# EAGLE library part PIC12C*? (library microchip-3)
MICROCONTROLLER
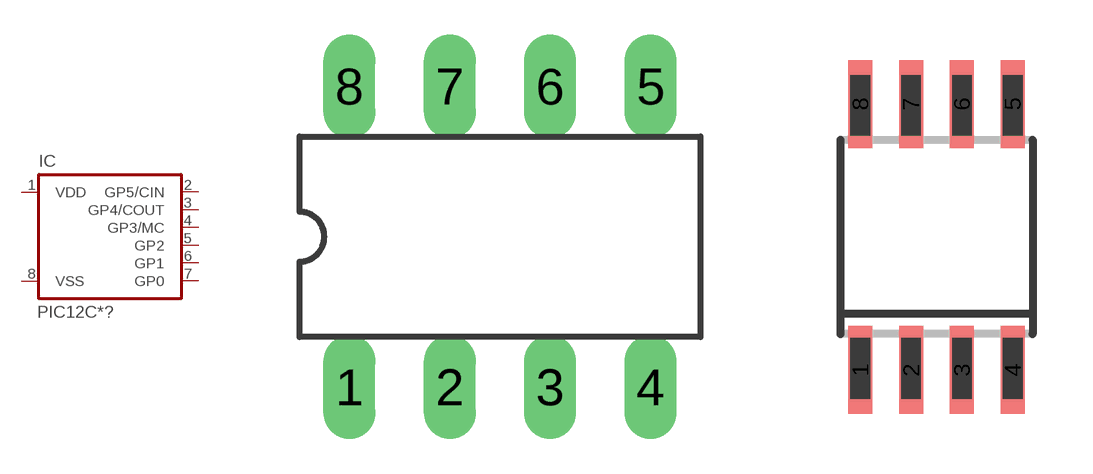
[diagram p23: symbol with the pads of DIL8; footprints DIL8, SO-08M]

Designator prefix IC

## PIC12C508P, PIC12C509P, PIC12C671P, PIC12C672P  [DIL8]
1  VDD  pwr
2  GP5/CIN
3  GP4/COUT
4  GP3/MC  in
5  GP2
6  GP1
7  GP0
8  VSS  pwr

## PIC12C508JN, PIC12C509JN, PIC12C671JN, PIC12C672JN  [DIL8]
Pads as for DIL8

## PIC12C508SM, PIC12C509SM, PIC12C671SM, PIC12C672SM  [SO-08M]
Pads as for DIL8

## Footprint DIL8 (pad centres in mm)
Dual In Line package type P
drill 0.813 long: 1 -3.81,-3.81; 2 -1.27,-3.81; 3 1.27,-3.81; 4 3.81,-3.81; 5 3.81,3.81; 6 1.27,3.81; 7 -1.27,3.81; 8 -3.81,3.81

## Footprint SO-08M (pad centres in mm)
Small Outline Medium Plastic Gull Wing 207-mil body, package type SM
smd 0.6 x 2.2: 1 -1.905,-3.33; 2 -0.635,-3.33; 3 0.635,-3.33; 4 1.905,-3.33; 5 1.905,3.33; 6 0.635,3.33; 7 -0.635,3.33; 8 -1.905,3.33